# Altium integrated library MRM2-X5DMU.INTLIB: 1 symbol
Pins are listed as number, name and electrical type; pins without a type are passive.

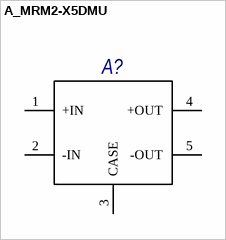
[diagram p0: symbol A_MRM2-X5DMU]

## A_MRM2-X5DMU
designator A?  (value not drawn)
footprint MRM2-X5DMU
pins: 1 +IN, 2 -IN, 3 CASE, 4 +OUT, 5 -OUT